# Altium footprint library PCB-Features.PcbLib: 5 footprints
Each footprint in its own frame and in the unit in brackets; x right, y up, seen from the top. Pads: shape width x height; smd on the part's side, far side on the other; paste and mask are expansions set on the pad; w line width, h text height; cw(c..) or ccw(c..) is an arc to the next point about the centre after c.
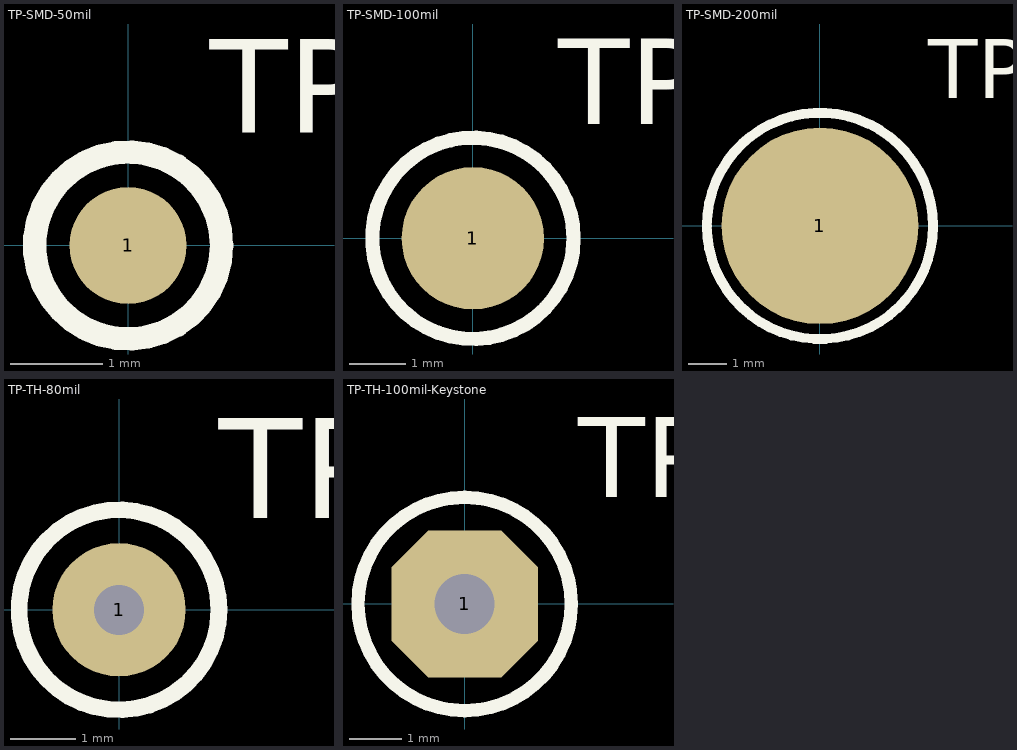
[diagram p0: the footprints below, top view; thin cyan lines are the x and y axes]

## TP-SMD-50mil [mil] "50 mil diameter SMD test point"
pads (1):
  round 50 smd: 1(0,0)
Top Overlay:
  circle w10: c0,0 r40
  text "TP-'.Designator'" at 35,48.33 h40

## TP-SMD-100mil [mil] "100 mil diameter SMD test point"
pads (1):
  round 100 smd: 1(0,0)
Top Overlay:
  circle w10: c0,0 r70.71
  text "TP-'.Designator'" at 60,79.99 h60

## TP-SMD-200mil [mil] "200 mil diameter SMD test point"
pads (1):
  round 200 smd: 1(0,0)
Top Overlay:
  circle w10: c0,0 r115
  text "TP-'.Designator'" at 110,129.99 h60

## TP-TH-80mil [mil] "80 mil pad, 30 mil hole:  pogo pin test point"
pads (1):
  round 80 hole 30: 1(0,0)
Top Overlay:
  circle w10: c0,0 r60
  text "TP-'.Designator'" at 60,54.99 h60

## TP-TH-100mil-Keystone [mil] "100 mil pad, 40 mil hole:  pogo pin test point"
pads (1):
  oct 110x110 hole 45: 1(0,0)
Top Overlay:
  circle w10: c0,0 r80
  text "TP-'.Designator'" at 85,79.99 h60
3D body "5014 (Yellow).step": height 320.08, standoff -124.8, extent -62.6,-62.47 62.6,62.47